# Altium schematic symbol library Resistors.SchLib: 67 symbols (part 5 of 6)
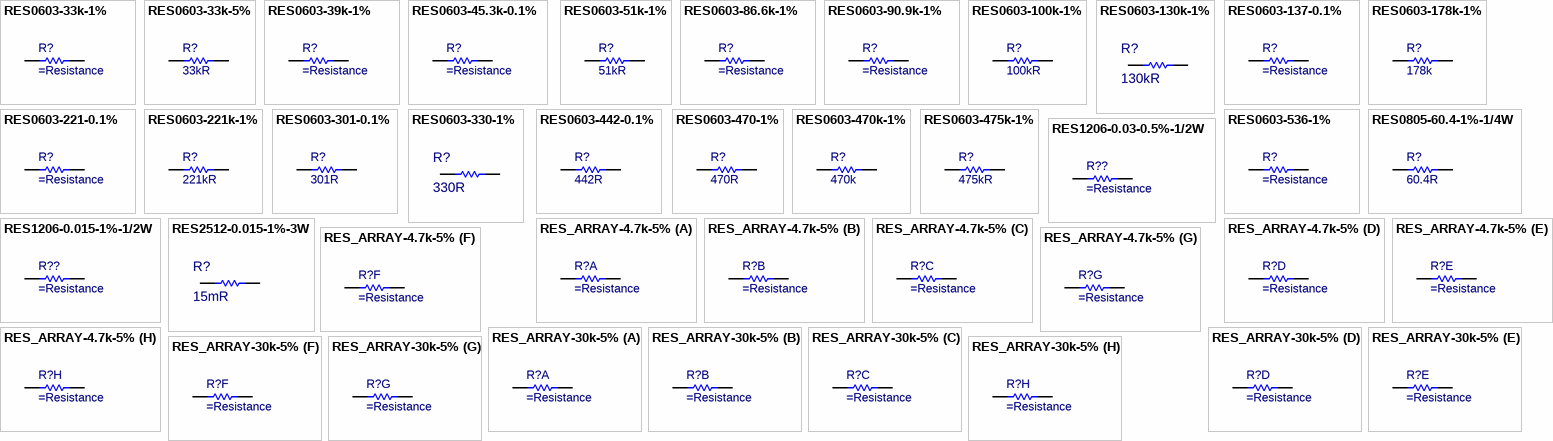
[diagram p6: symbols RES0603-33k-1% to RES_ARRAY-30k-5%]

## RES0603-100k-1%
designator R?, comment 100kR
RES SMD 100K OHM 1% 1/10W 0603; Manufacturer: Bourns; Manufacturer Part Number: CR0603-FX-1003ELF; Temperature Coefficient: 100ppm/°C; Voltage Rating (DC): 50V; Max Power Dissipation: 100mW; ComponentLink1URL: https://datasheet.ciiva.com/9122/chpreztr-9122363.pdf; ComponentLink1Description: https://datasheet.ciiva.com/9122/chpreztr-9122363.pdf; ComponentLink2URL: https://datasheet.ciiva.com/22713/691949-22713239.pdf?src-supplier=Element14; ComponentLink2Description: https://datasheet.ciiva.com/22713/691949-22713239.pdf?src-supplier=Element14; ComponentLink3URL: https://datasheet.ciiva.com/23776/1902866-23776391.pdf?src-supplier=Newark; ComponentLink3Description: https://datasheet.ciiva.com/23776/1902866-23776391.pdf?src-supplier=Newark; ComponentLink4URL: https://datasheet.ciiva.com/16766/70154685-16766760.pdf?src-supplier=Allied+Electronics; ComponentLink4Description: https://datasheet.ciiva.com/16766/70154685-16766760.pdf?src-supplier=Allied+Electronics; ComponentLink5URL: https://datasheet.ciiva.com/30229/159chpreztr-30229129.pdf?src-supplier=Onlinecomponents.com; ComponentLink5Description: https://datasheet.ciiva.com/30229/159chpreztr-30229129.pdf?src-supplier=Onlinecomponents.com; ComponentLink6URL: https://datasheet.ciiva.com/16935/chpreztr-16935963.pdf?src-supplier=Avnet+Europe; ComponentLink6Description: https://datasheet.ciiva.com/16935/chpreztr-16935963.pdf?src-supplier=Avnet+Europe; ComponentLink7URL: https://datasheet.ciiva.com/5543/chpreztr-5543676.pdf?src-supplier=Mouser; ComponentLink7Description: https://datasheet.ciiva.com/5543/chpreztr-5543676.pdf?src-supplier=Mouser; ComponentLink8URL: https://datasheet.ciiva.com/9120/chpreztr-9120764.pdf?src-supplier=Avnet; ComponentLink8Description: https://datasheet.ciiva.com/9120/chpreztr-9120764.pdf?src-supplier=Avnet; ComponentLink9URL: https://datasheet.ciiva.com/46383/1791942-46383790.pdf?src-supplier=Element14; ComponentLink9Description: https://datasheet.ciiva.com/46383/1791942-46383790.pdf?src-supplier=Element14; ComponentLink10URL: https://datasheet.ciiva.com/48692/001055501-da-01-en-smd-wid-cr0603-jw-104elf-100k-ohm-1-10w-48692133.pdf?src-supplier=Conrad; ComponentLink10Description: https://datasheet.ciiva.com/48692/001055501-da-01-en-smd-wid-cr0603-jw-104elf-100k-ohm-1-10w-48692133.pdf?src-supplier=Conrad; ComponentLink11URL: https://datasheet.ciiva.com/39121/775172-39121475.pdf?src-supplier=Jameco; ComponentLink11Description: https://datasheet.ciiva.com/39121/775172-39121475.pdf?src-supplier=Jameco; ComponentLink12URL: https://datasheet.ciiva.com/30052/159chpreztr-30052709.pdf?src-supplier=Onlinecomponents.com; ComponentLink12Description: https://datasheet.ciiva.com/30052/159chpreztr-30052709.pdf?src-supplier=Onlinecomponents.com; ComponentLink13URL: https://datasheet.ciiva.com/16935/chpreztr-16935910.pdf?src-supplier=Avnet+Europe; ComponentLink13Description: https://datasheet.ciiva.com/16935/chpreztr-16935910.pdf?src-supplier=Avnet+Europe; ComponentLink14URL: https://datasheet.ciiva.com/46383/1791942-46383767.pdf?src-supplier=Element14; ComponentLink14Description: https://datasheet.ciiva.com/46383/1791942-46383767.pdf?src-supplier=Element14; ComponentLink15URL: https://datasheet.ciiva.com/7986/1902866-7986185.pdf?src-supplier=Element14; ComponentLink15Description: https://datasheet.ciiva.com/7986/1902866-7986185.pdf?src-supplier=Element14; ComponentLink16URL: https://datasheet.ciiva.com/6547/chpreztr-6547278.pdf?src-supplier=Digi-Key; ComponentLink16Description: https://datasheet.ciiva.com/6547/chpreztr-6547278.pdf?src-supplier=Digi-Key; ComponentLink17URL: https://datasheet.ciiva.com/6547/chpreztr-6547279.pdf?src-supplier=Digi-Key; ComponentLink17Description: https://datasheet.ciiva.com/6547/chpreztr-6547279.pdf?src-supplier=Digi-Key; ComponentLink18URL: https://datasheet.ciiva.com/16757/70154685-16757477.pdf?src-supplier=Allied+Electronics; ComponentLink18Description: https://datasheet.ciiva.com/16757/70154685-16757477.pdf?src-supplier=Allied+Electronics; ComponentLink19URL: https://datasheet.ciiva.com/22713/691949-22713237.pdf?src-supplier=Element14; ComponentLink19Description: https://datasheet.ciiva.com/22713/691949-22713237.pdf?src-supplier=Element14; ComponentLink20URL: https://datasheet.ciiva.com/6564/chpreztr-6564439.pdf?src-supplier=Digi-Key; ComponentLink20Description: https://datasheet.ciiva.com/6564/chpreztr-6564439.pdf?src-supplier=Digi-Key; ComponentLink21URL: https://datasheet.ciiva.com/16935/chpreztr-16935928.pdf?src-supplier=Avnet+Europe; ComponentLink21Description: https://datasheet.ciiva.com/16935/chpreztr-16935928.pdf?src-supplier=Avnet+Europe; ComponentLink22URL: https://datasheet.ciiva.com/6564/chpreztr-6564441.pdf?src-supplier=Digi-Key; ComponentLink22Description: https://datasheet.ciiva.com/6564/chpreztr-6564441.pdf?src-supplier=Digi-Key; ComponentLink23URL: https://datasheet.ciiva.com/9123/chpreztr-9123706.pdf?src-supplier=Avnet; ComponentLink23Description: https://datasheet.ciiva.com/9123/chpreztr-9123706.pdf?src-supplier=Avnet; ComponentLink24URL: https://datasheet.ciiva.com/7986/1902866-7986188.pdf?src-supplier=Element14; ComponentLink24Description: https://datasheet.ciiva.com/7986/1902866-7986188.pdf?src-supplier=Element14; ComponentLink25URL: https://datasheet.ciiva.com/46383/691949-46383788.pdf?src-supplier=Element14; ComponentLink25Description: https://datasheet.ciiva.com/46383/691949-46383788.pdf?src-supplier=Element14; ComponentLink26URL: https://datasheet.ciiva.com/11808/0900766b80fcdb72-11808035.pdf?src-supplier=RSComponents; ComponentLink26Description: https://datasheet.ciiva.com/11808/0900766b80fcdb72-11808035.pdf?src-supplier=RSComponents; ComponentLink27URL: https://datasheet.ciiva.com/19466/774882-19466523.pdf?src-supplier=Jameco; ComponentLink27Description: https://datasheet.ciiva.com/19466/774882-19466523.pdf?src-supplier=Jameco; ComponentLink28URL: https://datasheet.ciiva.com/6547/chpreztr-6547349.pdf?src-supplier=Digi-Key; ComponentLink28Description: https://datasheet.ciiva.com/6547/chpreztr-6547349.pdf?src-supplier=Digi-Key; ComponentLink29URL: https://datasheet.ciiva.com/16941/chpreztr-16941637.pdf?src-supplier=Avnet+Europe; ComponentLink29Description: https://datasheet.ciiva.com/16941/chpreztr-16941637.pdf?src-supplier=Avnet+Europe; ComponentLink30URL: https://datasheet.ciiva.com/22693/1902866-22693205.pdf?src-supplier=Element14; ComponentLink30Description: https://datasheet.ciiva.com/22693/1902866-22693205.pdf?src-supplier=Element14; ComponentLink31URL: https://datasheet.ciiva.com/6547/chpreztr-6547350.pdf?src-supplier=Digi-Key; ComponentLink31Description: https://datasheet.ciiva.com/6547/chpreztr-6547350.pdf?src-supplier=Digi-Key; ComponentLink32URL: https://datasheet.ciiva.com/7001/1902866-7001622.pdf?src-supplier=Newark; ComponentLink32Description: https://datasheet.ciiva.com/7001/1902866-7001622.pdf?src-supplier=Newark; ComponentLink33URL: https://datasheet.ciiva.com/30115/159chpreztr-30115222.pdf?src-supplier=Onlinecomponents.com; ComponentLink33Description: https://datasheet.ciiva.com/30115/159chpreztr-30115222.pdf?src-supplier=Onlinecomponents.com; ComponentLink34URL: https://datasheet.ciiva.com/6547/chpreztr-6547351.pdf?src-supplier=Digi-Key; ComponentLink34Description: https://datasheet.ciiva.com/6547/chpreztr-6547351.pdf?src-supplier=Digi-Key; ComponentLink35URL: https://datasheet.ciiva.com/16757/70154685-16757482.pdf?src-supplier=Allied+Electronics; ComponentLink35Description: https://datasheet.ciiva.com/16757/70154685-16757482.pdf?src-supplier=Allied+Electronics; ComponentLink36URL: https://datasheet.ciiva.com/5546/chpreztr-5546283.pdf?src-supplier=Mouser; ComponentLink36Description: https://datasheet.ciiva.com/5546/chpreztr-5546283.pdf?src-supplier=Mouser; ComponentLink37URL: https://datasheet.ciiva.com/7986/691949-7986156.pdf?src-supplier=Element14; ComponentLink37Description: https://datasheet.ciiva.com/7986/691949-7986156.pdf?src-supplier=Element14; ComponentLink38URL: https://datasheet.ciiva.com/3255/chpreztr-3255917.pdf?src-supplier=Avnet; ComponentLink38Description: https://datasheet.ciiva.com/3255/chpreztr-3255917.pdf?src-supplier=Avnet; ComponentLink39URL: https://datasheet.ciiva.com/5547/chpreztr-5547814.pdf?src-supplier=Mouser; ComponentLink39Description: https://datasheet.ciiva.com/5547/chpreztr-5547814.pdf?src-supplier=Mouser; ComponentLink40URL: https://datasheet.ciiva.com/18594/chpreztr-18594942.pdf?src-supplier=Digi-Key; ComponentLink40Description: https://datasheet.ciiva.com/18594/chpreztr-18594942.pdf?src-supplier=Digi-Key; ComponentLink41URL: https://datasheet.ciiva.com/18594/chpreztr-18594943.pdf?src-supplier=Digi-Key; ComponentLink41Description: https://datasheet.ciiva.com/18594/chpreztr-18594943.pdf?src-supplier=Digi-Key; ComponentLink42URL: https://datasheet.ciiva.com/9119/chpreztr-9119642.pdf?src-supplier=Avnet; ComponentLink42Description: https://datasheet.ciiva.com/9119/chpreztr-9119642.pdf?src-supplier=Avnet; ComponentLink43URL: https://datasheet.ciiva.com/14986/chpreztr-14986477.pdf?src-supplier=Digi-Key; ComponentLink43Description: https://datasheet.ciiva.com/14986/chpreztr-14986477.pdf?src-supplier=Digi-Key; ComponentLink44URL: https://datasheet.ciiva.com/5545/chpreztr-5545629.pdf?src-supplier=Mouser; ComponentLink44Description: https://datasheet.ciiva.com/5545/chpreztr-5545629.pdf?src-supplier=Mouser; Supplier 1: Digi-Key; RoHS: Yes; Category: Chip SMD Resistors; Stock 1: 1177; Pricing 1: 1=0,10000, 10=0,01900, 100=0,00780, 1000=0,00350, 2500=0,00304 (USD); Mount: Surface Mount; Case/Package: 0603; Number of Pins: 2; Contact Plating: Tin; Case Code (Metric): 1608; Case Code (Imperial): 0603; Min Operating Temperature: -55°C; Max Operating Temperature: 155°C; Composition: Thick Film; Resistance: 100kR; Tolerance: 1%; Number of Terminations: 2; Termination: SMD/SMT; Features: Moisture Resistant; Packaging: Tape and Reel; Power Rating: 100mW; Voltage Rating: 50V; Package Quantity: 1; Working Voltage: 50V; Military Standard: Not; Length: 1.6mm; Height: 0.022inch; Depth: 0.8mm; Thickness: 457um; Width: 0.031inch; Radiation Hardening: No; REACH SVHC: No SVHC; ComponentLink45URL: https://datasheet.ciiva.com/11808/0900766b80fcdb72-11808036.pdf?src-supplier=RSComponents; ComponentLink45Description: https://datasheet.ciiva.com/11808/0900766b80fcdb72-11808036.pdf?src-supplier=RSComponents; ComponentLink46URL: https://datasheet.ciiva.com/19466/1163741-19466516.pdf?src-supplier=Jameco; ComponentLink46Description: https://datasheet.ciiva.com/19466/1163741-19466516.pdf?src-supplier=Jameco; ComponentLink47URL: https://datasheet.ciiva.com/41449/001055485-da-01-en-smd-wid-cr0603-fx-1003elf-100k-ohm-1-10w-41449971.pdf?src-supplier=Conrad; ComponentLink47Description: https://datasheet.ciiva.com/41449/001055485-da-01-en-smd-wid-cr0603-fx-1003elf-100k-ohm-1-10w-41449971.pdf?src-supplier=Conrad; ComponentLink48URL: https://datasheet.ciiva.com/46385/691949-46385260.pdf?src-supplier=Element14; ComponentLink48Description: https://datasheet.ciiva.com/46385/691949-46385260.pdf?src-supplier=Element14; ComponentLink49URL: https://datasheet.ciiva.com/6547/chpreztr-6547309.pdf?src-supplier=Digi-Key; ComponentLink49Description: https://datasheet.ciiva.com/6547/chpreztr-6547309.pdf?src-supplier=Digi-Key; ComponentLink50URL: https://datasheet.ciiva.com/6547/chpreztr-6547310.pdf?src-supplier=Digi-Key; ComponentLink50Description: https://datasheet.ciiva.com/6547/chpreztr-6547310.pdf?src-supplier=Digi-Key; ComponentLink51URL: https://datasheet.ciiva.com/3255/chpreztr-3255919.pdf?src-supplier=Avnet; ComponentLink51Description: https://datasheet.ciiva.com/3255/chpreztr-3255919.pdf?src-supplier=Avnet; ComponentLink52URL: https://datasheet.ciiva.com/16782/70154685-16782911.pdf?src-supplier=Allied+Electronics; ComponentLink52Description: https://datasheet.ciiva.com/16782/70154685-16782911.pdf?src-supplier=Allied+Electronics; ComponentLink53URL: https://datasheet.ciiva.com/22693/1902866-22693207.pdf?src-supplier=Element14; ComponentLink53Description: https://datasheet.ciiva.com/22693/1902866-22693207.pdf?src-supplier=Element14; ComponentLink54URL: https://datasheet.ciiva.com/16941/chpreztr-16941643.pdf?src-supplier=Avnet+Europe; ComponentLink54Description: https://datasheet.ciiva.com/16941/chpreztr-16941643.pdf?src-supplier=Avnet+Europe; ComponentLink55URL: https://datasheet.ciiva.com/15159/getdatasheetpartid-57636-15159629.pdf?src-supplier=Verical; ComponentLink55Description: https://datasheet.ciiva.com/15159/getdatasheetpartid-57636-15159629.pdf?src-supplier=Verical; ComponentLink56URL: https://datasheet.ciiva.com/5546/chpreztr-5546894.pdf?src-supplier=Mouser; ComponentLink56Description: https://datasheet.ciiva.com/5546/chpreztr-5546894.pdf?src-supplier=Mouser; ComponentLink57URL: https://datasheet.ciiva.com/7986/1902866-7986158.pdf?src-supplier=Element14; ComponentLink57Description: https://datasheet.ciiva.com/7986/1902866-7986158.pdf?src-supplier=Element14; ComponentLink58URL: https://datasheet.ciiva.com/6547/chpreztr-6547311.pdf?src-supplier=Digi-Key; ComponentLink58Description: https://datasheet.ciiva.com/6547/chpreztr-6547311.pdf?src-supplier=Digi-Key; ComponentLink59URL: https://datasheet.ciiva.com/30120/159chpreztr-30120559.pdf?src-supplier=Onlinecomponents.com; ComponentLink59Description: https://datasheet.ciiva.com/30120/159chpreztr-30120559.pdf?src-supplier=Onlinecomponents.com; Supplier Part Number 1: CR0603-FX-1003ELFCT-ND
footprint R0603 (Chip Resistor, 2-Leads, Body 1.75x0.95mm)
pins: 1, 2

## RES0603-130k-1%
designator R?, comment 130kR
RES SMD 130K OHM 1% 1/10W 0603; Manufacturer: Vishay; Manufacturer Part Number: CRCW0603130KFKEA; Temperature Coefficient: 100ppm/°C; Max Power Dissipation: 100mW; Voltage Rating: 75V; Supplier 1: Digi-Key; RoHS: Yes; Category: Chip SMD Resistors; Stock 1: 19697; Pricing 1: 1=0.10000, 10=0.03600, 100=0.01450, 1000=0.00652, 2500=0.00566 (USD); Case/Package: 0603; Number of Pins: 2; Contact Plating: Tin; Case Code (Metric): 1608; Case Code (Imperial): 0603; Weight: 7.1E-05oz; Size Code: 0603; Min Operating Temperature: -55°C; Max Operating Temperature: 155°C; Resistance: 130kR; Tolerance: 1%; Resistor Type: Thick Film; Packaging: Tape and Reel; Number of Terminations: 2; Package Quantity: 10; Power Rating: 100mW; Termination: SMD/SMT; Features: Automotive AEC-Q200; Series: CRCW; Voltage Rating (DC): 75V; Construction: Rectangular; Resistance Tolerance: 1%; Technology: THICK FILM; Length: 1.55mm; Width: 0.033inch; Height: 0.45mm; Depth: 0.85mm; Radiation Hardening: No; Lead Free: Lead Free; RoHS Compliant: Yes; REACH SVHC: Unknown; Military Standard: Not; ComponentLink1URL: https://datasheet.ciiva.com/11810/0900766b80d98afc-11810935.pdf?src-supplier=RSComponents; ComponentLink1Description: https://datasheet.ciiva.com/11810/0900766b80d98afc-11810935.pdf?src-supplier=RSComponents; ComponentLink2URL: https://datasheet.ciiva.com/2466/dcrcwe3-2466080.pdf?src-supplier=Digi-Key; ComponentLink2Description: https://datasheet.ciiva.com/2466/dcrcwe3-2466080.pdf?src-supplier=Digi-Key; ComponentLink3URL: https://datasheet.ciiva.com/2466/dcrcwe3-2466081.pdf?src-supplier=Digi-Key; ComponentLink3Description: https://datasheet.ciiva.com/2466/dcrcwe3-2466081.pdf?src-supplier=Digi-Key; ComponentLink4URL: https://datasheet.ciiva.com/2466/dcrcwe3-2466082.pdf?src-supplier=Digi-Key; ComponentLink4Description: https://datasheet.ciiva.com/2466/dcrcwe3-2466082.pdf?src-supplier=Digi-Key; ComponentLink5URL: https://datasheet.ciiva.com/16498/dcrcwe3-16498316.pdf?src-supplier=Future+Electronics; ComponentLink5Description: https://datasheet.ciiva.com/16498/dcrcwe3-16498316.pdf?src-supplier=Future+Electronics; ComponentLink6URL: https://datasheet.ciiva.com/16782/70201119-16782396.pdf?src-supplier=Allied+Electronics; ComponentLink6Description: https://datasheet.ciiva.com/16782/70201119-16782396.pdf?src-supplier=Allied+Electronics; ComponentLink7URL: https://datasheet.ciiva.com/8972/dcrcwe3-8972701.pdf?src-supplier=Avnet; ComponentLink7Description: https://datasheet.ciiva.com/8972/dcrcwe3-8972701.pdf?src-supplier=Avnet; ComponentLink8URL: https://datasheet.ciiva.com/16786/70201119-16786879.pdf?src-supplier=Allied+Electronics; ComponentLink8Description: https://datasheet.ciiva.com/16786/70201119-16786879.pdf?src-supplier=Allied+Electronics; Supplier Part Number 1: 541-130KHCT-ND
footprint R0603 (Chip Resistor, 2-Leads, Body 1.75x0.95mm)
pins: 1, 2

## RES0603-137-0.1%
designator R?
RES SMD 137 OHM 0.1% 1/16W 0603; Manufacturer: TE Connectivity; Manufacturer Part Number: CPF0603B137RE1; Resistance: 137R; Value: 137R; Temperature Coefficient: 25ppm/°C; Max Power Dissipation: 63mW; Voltage Rating: 50V; Number of Resistors: 1; Supplier: Digikey; Supplier Part Number: CPF0603B137RE1-ND; RoHS: Yes; Category: Chip SMD Resistors; Pricing: 1000=0,12618 (USD); Mounting Technology: Surface Mount; Case/Package: 0603; Case Code (Metric): 1608; Case Code (Imperial): 0603; Weight: 7.1E-05oz; Min Operating Temperature: -55°C; Max Operating Temperature: 155°C; Tolerance: 0.1%; Number of Terminations: 2; Power Rating: 63mW; Packaging: Tape and Reel; Package Quantity: 1000; Voltage Rating (DC): 50V; Series: CPF, Neohm; Termination: Solder; Resistor Type: Thin Film; Resistance Tolerance: 0.1%; Length: 1.55mm; Width: 0.8mm; Height: 0.45mm; RoHS Compliant: Yes; Reach SVHC Compliant: No; ELV: Compliant; ComponentLink1URL: https://datasheet.ciiva.com/22670/1723857-22670602.pdf?src-supplier=Element14; ComponentLink1Description: https://datasheet.ciiva.com/22670/1723857-22670602.pdf?src-supplier=Element14; ComponentLink2URL: https://datasheet.ciiva.com/2545/eng-cd-1879222-ba1-pdf-c-1879222-drw-2545299.pdf?src-supplier=Digikey; ComponentLink2Description: https://datasheet.ciiva.com/2545/eng-cd-1879222-ba1-pdf-c-1879222-drw-2545299.pdf?src-supplier=Digikey; Supplier 1: Digikey; Supplier Part Number 1: CPF0603B137RE1-ND
footprint R0603 (Chip Resistor, 2-Leads, Body 1.75x0.95mm)
pins: 1, 2

## RES0603-178k-1%
designator R?, comment 178k
RES SMD 178K OHM 1% 1/10W 0603; Manufacturer: Vishay; Manufacturer Part Number: CRCW0603178KFKEA; Voltage Rating (DC): 75V; Max Power Dissipation: 100mW; Value: 178kΩ; Temperature Coefficient: 100ppm/°C; Resistance: 178k; Supplier: Digikey; Supplier Part Number: 541-178KHCT-ND; RoHS: Yes; Category: Chip SMD Resistors; Stock: 34149; Pricing: 1=0,1, 10=0,03, 100=0,015, 1000=0,00845, 2500=0,00702 (USD); Lead Free: 5697LeadFree; ComponentLink1URL: https://datasheet.ciiva.com/11810/0900766b80d98afc-11810671.pdf?src-supplier=Rs; ComponentLink1Description: https://datasheet.ciiva.com/11810/0900766b80d98afc-11810671.pdf?src-supplier=Rs; ComponentLink2URL: https://datasheet.ciiva.com/7714/1697337-7714237.pdf?src-supplier=Element14; ComponentLink2Description: https://datasheet.ciiva.com/7714/1697337-7714237.pdf?src-supplier=Element14; ComponentLink3URL: https://datasheet.ciiva.com/3257/dcrcwe3-3257093.pdf?src-supplier=Avnet; ComponentLink3Description: https://datasheet.ciiva.com/3257/dcrcwe3-3257093.pdf?src-supplier=Avnet; ComponentLink4URL: https://datasheet.ciiva.com/5551/dcrcwe3-109170-5551581.pdf?src-supplier=Mouser; ComponentLink4Description: https://datasheet.ciiva.com/5551/dcrcwe3-109170-5551581.pdf?src-supplier=Mouser; ComponentLink5URL: https://datasheet.ciiva.com/2466/dcrcwe3-2466308.pdf?src-supplier=Digikey; ComponentLink5Description: https://datasheet.ciiva.com/2466/dcrcwe3-2466308.pdf?src-supplier=Digikey; ComponentLink6URL: https://datasheet.ciiva.com/2466/dcrcwe3-2466309.pdf?src-supplier=Digikey; ComponentLink6Description: https://datasheet.ciiva.com/2466/dcrcwe3-2466309.pdf?src-supplier=Digikey; ComponentLink7URL: https://datasheet.ciiva.com/2466/dcrcwe3-2466310.pdf?src-supplier=Digikey; ComponentLink7Description: https://datasheet.ciiva.com/2466/dcrcwe3-2466310.pdf?src-supplier=Digikey; ComponentLink8URL: https://datasheet.ciiva.com/16396/dcrcwe3-16396318.pdf?src-supplier=Future+Electronics; ComponentLink8Description: https://datasheet.ciiva.com/16396/dcrcwe3-16396318.pdf?src-supplier=Future+Electronics; ComponentLink9URL: https://datasheet.ciiva.com/15159/getdatasheetpartid-248924-15159019.pdf?src-supplier=Verical; ComponentLink9Description: https://datasheet.ciiva.com/15159/getdatasheetpartid-248924-15159019.pdf?src-supplier=Verical; Supplier 1: DigiKey; Supplier Part Number 1: 13-AC0603FR-07178KLDKR-ND; Case/Package: 0603; Case Code (Imperial): 0603; Case Code (Metric): 1608; China RoHS: Non-Compliant; Composition: Thick Film; Features: Automotive AEC-Q200, Moisture Resistant; Height: 450µm; Length: 1.6002mm; Lifecycle Status: Production; Max Operating Temperature: 155°C; Min Operating Temperature: -55°C; Mounting Technology: Surface Mount; Number of Terminals: 2; Number of Terminations: 2; Packaging: Tape & Reel; Power Dissipation: 100mW; Power Rating: 100mW; REACH SVHC: Yes; Termination: SMD/SMT; Tolerance: 1%; Voltage Rating: 75V; Weight: 2.012816mg; Width: 800µm; Working Voltage: 75V; ComponentLink10URL: https://datasheet.octopart.com:443/AC0603FR-07178KL-Yageo-datasheet-182189377.pdf?src-supplier=IHS; ComponentLink10Description: https://datasheet.octopart.com:443/AC0603FR-07178KL-Yageo-datasheet-182189377.pdf?src-supplier=IHS; ComponentLink11URL: https://datasheet.octopart.com:443/AC0603FR-07178KL-Yageo-datasheet-86786639.pdf?src-supplier=Upverter; ComponentLink11Description: https://datasheet.octopart.com:443/AC0603FR-07178KL-Yageo-datasheet-86786639.pdf?src-supplier=Upverter; ComponentLink12URL: https://datasheet.octopart.com:443/AC0603FR-07178KL-Yageo-datasheet-178509465.pdf?src-supplier=Farnell; ComponentLink12Description: https://datasheet.octopart.com:443/AC0603FR-07178KL-Yageo-datasheet-178509465.pdf?src-supplier=Farnell; ComponentLink13URL: https://datasheet.octopart.com:443/AC0603FR-07178KL-Yageo-datasheet-12512238.pdf?src-supplier=Future+Electronics; ComponentLink13Description: https://datasheet.octopart.com:443/AC0603FR-07178KL-Yageo-datasheet-12512238.pdf?src-supplier=Future+Electronics; ComponentLink14URL: https://datasheet.octopart.com:443/AC0603FR-07178KL-Yageo-datasheet-166720450.pdf?src-supplier=Future+Electronics; ComponentLink14Description: https://datasheet.octopart.com:443/AC0603FR-07178KL-Yageo-datasheet-166720450.pdf?src-supplier=Future+Electronics; ComponentLink15URL: https://datasheet.octopart.com:443/AC0603FR-07178KL-Yageo-datasheet-151884373.pdf?src-supplier=Future+Electronics; ComponentLink15Description: https://datasheet.octopart.com:443/AC0603FR-07178KL-Yageo-datasheet-151884373.pdf?src-supplier=Future+Electronics; ComponentLink16URL: https://datasheet.octopart.com:443/AC0603FR-07178KL-Yageo-datasheet-137699919.pdf?src-supplier=Future+Electronics; ComponentLink16Description: https://datasheet.octopart.com:443/AC0603FR-07178KL-Yageo-datasheet-137699919.pdf?src-supplier=Future+Electronics; ComponentLink17URL: https://datasheet.octopart.com:443/AC0603FR-07178KL-Yageo-Group-datasheet-164768995.pdf?src-supplier=ODG+(Origin+Data+Global); ComponentLink17Description: https://datasheet.octopart.com:443/AC0603FR-07178KL-Yageo-Group-datasheet-164768995.pdf?src-supplier=ODG+(Origin+Data+Global); ComponentLink18URL: http://sigma.octopart.com:80/conflict_mineral_statement/Yageo-company-3.pdf?src-supplier=Compliance+Statements; ComponentLink18Description: http://sigma.octopart.com:80/conflict_mineral_statement/Yageo-company-3.pdf?src-supplier=Compliance+Statements; ComponentLink19URL: http://sigma.octopart.com:80/rohs_statement/Yageo-company-2.pdf?src-supplier=Compliance+Statements; ComponentLink19Description: http://sigma.octopart.com:80/rohs_statement/Yageo-company-2.pdf?src-supplier=Compliance+Statements
footprint R0603 (Chip Resistor, 2-Leads, Body 1.75x0.95mm)
pins: 1, 2

## RES0603-221-0.1%
designator R?
RES SMD 221 OHM 0.1% 1/16W 0603; Manufacturer: TE Connectivity; Manufacturer Part Number: CPF0603B221RE1; Resistance: 221R; Value: 221R; Temperature Coefficient: 25ppm/°C; Voltage Rating (DC): 50V; Max Power Dissipation: 63mW; Number of Resistors: 1; Supplier: Digikey; Supplier Part Number: 1712-CPF0603B221RE1CT-ND; RoHS: Yes; Category: Chip SMD Resistors; Stock: 700; Pricing: 1=0,27, 10=0,222, 50=0,1942, 100=0,1835, 500=0,16188 (USD); Mounting Technology: Surface Mount; Case/Package: 0603; Case Code (Metric): 1608; Case Code (Imperial): 0603; Weight: 7.1E-05oz; Contact Plating: Tin; Min Operating Temperature: -55°C; Max Operating Temperature: 155°C; Tolerance: 0.1%; Packaging: Tape and Reel; Series: CPF, Neohm; Number of Terminations: 2; Package Quantity: 1000; Power Rating: 63mW; Voltage Rating: 50V; Termination: Solder; Resistor Type: Thin Film; Resistance Tolerance: 0.1%; Operating Supply Voltage: 50V; Length: 1.55mm; Width: 0.8mm; Height: 0.45mm; Radiation Hardening: No; RoHS Compliant: Yes; Reach SVHC Compliant: No; ELV: Compliant; ComponentLink1URL: https://datasheet.ciiva.com/22670/1723857-22670715.pdf?src-supplier=Element14; ComponentLink1Description: https://datasheet.ciiva.com/22670/1723857-22670715.pdf?src-supplier=Element14; ComponentLink2URL: https://datasheet.ciiva.com/28516/1723857-28516518.pdf?src-supplier=Element14; ComponentLink2Description: https://datasheet.ciiva.com/28516/1723857-28516518.pdf?src-supplier=Element14; ComponentLink3URL: https://datasheet.ciiva.com/12729/eng-ds-1773200-i-12729263.pdf?src-supplier=Mouser; ComponentLink3Description: https://datasheet.ciiva.com/12729/eng-ds-1773200-i-12729263.pdf?src-supplier=Mouser; ComponentLink4URL: https://datasheet.ciiva.com/2545/eng-cd-1879222-ba1-pdf-c-1879222-drw-2545317.pdf?src-supplier=Digikey; ComponentLink4Description: https://datasheet.ciiva.com/2545/eng-cd-1879222-ba1-pdf-c-1879222-drw-2545317.pdf?src-supplier=Digikey; Supplier 1: Digikey; Supplier Part Number 1: 1712-CPF0603B221RE1CT-ND
footprint R0603 (Chip Resistor, 2-Leads, Body 1.75x0.95mm)
pins: 1, 2

## RES0603-221k-1%
designator R?, comment 221kR
RES SMD 221K OHM 1% 1/10W 0603; Manufacturer: Yageo Group; Manufacturer Part Number: RT0603FRE07221KL; Max Power Dissipation: 100mW; Value: 221kΩ; Temperature Coefficient: 50ppm/°C; Voltage Rating: 75V; Voltage Rating (DC): 50V; Resistance: 221kR; Supplier: DigiKey; Supplier Part Number: 13-RT0603FRE07221KLCT-ND; RoHS: Compliant; Category: Chip SMD Resistors; Stock: 10270; Pricing: 1=0,1, 10=0,008, 25=0,008, 50=0,0076 (USD); Case/Package: 0603; Case Code (Imperial): 0603; China RoHS: Non-Compliant; Composition: Thin Film; Contact Plating: Tin; Depth: 800µm; Height: 450µm; Lead Free: Lead Free; Length: 1.6002mm; Lifecycle Status: Production; Max Operating Temperature: 155°C; Military Standard: Not; Min Operating Temperature: -55°C; Mounting Technology: Surface Mount; Number of Terminals: 2; Number of Terminations: 2; Power Dissipation: 100mW; Power Rating: 100mW; Radiation Hardening: No; REACH SVHC: Yes; Termination: SMD/SMT; Tolerance: 1%; Width: 800µm; Working Voltage: 75V; ComponentLink1URL: https://datasheet.octopart.com:443/RT0603FRE07221KL-Yageo-datasheet-176402239.pdf?src-supplier=Newark; ComponentLink1Description: https://datasheet.octopart.com:443/RT0603FRE07221KL-Yageo-datasheet-176402239.pdf?src-supplier=Newark; ComponentLink2URL: https://datasheet.octopart.com:443/RT0603FRE07221KL-Yageo-datasheet-96443642.pdf?src-supplier=Upverter; ComponentLink2Description: https://datasheet.octopart.com:443/RT0603FRE07221KL-Yageo-datasheet-96443642.pdf?src-supplier=Upverter; ComponentLink3URL: https://datasheet.octopart.com:443/RT0603FRE07221KL-Yageo-datasheet-169971040.pdf?src-supplier=Future+Electronics; ComponentLink3Description: https://datasheet.octopart.com:443/RT0603FRE07221KL-Yageo-datasheet-169971040.pdf?src-supplier=Future+Electronics; ComponentLink4URL: https://datasheet.octopart.com:443/RT0603FRE07221KL-Yageo-datasheet-166250672.pdf?src-supplier=Future+Electronics; ComponentLink4Description: https://datasheet.octopart.com:443/RT0603FRE07221KL-Yageo-datasheet-166250672.pdf?src-supplier=Future+Electronics; ComponentLink5URL: https://datasheet.octopart.com:443/RT0603FRE07221KL-Yageo-datasheet-137700930.pdf?src-supplier=Future+Electronics; ComponentLink5Description: https://datasheet.octopart.com:443/RT0603FRE07221KL-Yageo-datasheet-137700930.pdf?src-supplier=Future+Electronics; ComponentLink6URL: https://datasheet.octopart.com/RT0603FRE07221KL-Yageo-datasheet-86813807.pdf; ComponentLink6Description: https://datasheet.octopart.com/RT0603FRE07221KL-Yageo-datasheet-86813807.pdf; ComponentLink7URL: http://sigma.octopart.com:80/rohs_statement/Yageo-company-2.pdf?src-supplier=Compliance+Statements; ComponentLink7Description: http://sigma.octopart.com:80/rohs_statement/Yageo-company-2.pdf?src-supplier=Compliance+Statements; ComponentLink8URL: http://sigma.octopart.com:80/conflict_mineral_statement/Yageo-company-3.pdf?src-supplier=Compliance+Statements; ComponentLink8Description: http://sigma.octopart.com:80/conflict_mineral_statement/Yageo-company-3.pdf?src-supplier=Compliance+Statements; Supplier 1: DigiKey; Supplier Part Number 1: 13-RT0603FRE07221KLCT-ND
footprint R0603 (Chip Resistor, 2-Leads, Body 1.75x0.95mm)
pins: 1, 2

## RES0603-301-0.1%
designator R?, comment 301R
RES 301 OHM 0.1% 0.21W 0603; Manufacturer: Vishay Dale; Manufacturer Part Number: TNPW0603301RBEEA; Resistance: 301R; ComponentLink1URL: https://datasheet.ciiva.com/8948/tnpw-e3-8948763.pdf?src-supplier=Avnet; ComponentLink1Description: https://datasheet.ciiva.com/8948/tnpw-e3-8948763.pdf?src-supplier=Avnet; ComponentLink2URL: https://datasheet.ciiva.com/22670/1723857-22670602.pdf?src-supplier=Element14; ComponentLink2Description: https://datasheet.ciiva.com/22670/1723857-22670602.pdf?src-supplier=Element14; ComponentLink3URL: https://datasheet.ciiva.com/2545/eng-cd-1879222-ba1-pdf-c-1879222-drw-2545299.pdf?src-supplier=Digikey; ComponentLink3Description: https://datasheet.ciiva.com/2545/eng-cd-1879222-ba1-pdf-c-1879222-drw-2545299.pdf?src-supplier=Digikey; Supplier: Digikey; Supplier Part Number: 541-3647-1-ND; RoHS: Yes; Category: Chip SMD Resistors; Stock: 2304; Pricing: 1=0,23, 10=0,192, 50=0,1682, 100=0,159, 500=0,1401, 1000=0,13317 (USD); Supplier 1: Digikey; Supplier Part Number 1: 541-3647-1-ND
footprint R0603 (Chip Resistor, 2-Leads, Body 1.75x0.95mm)
pins: 1, 2

## RES0603-330-1%
designator R?, comment 330R
RES SMD 330 OHM 1% 1/10W 0603; Manufacturer 1: Vishay; Manufacturer Part Number 1: CRCW0603330RFKEA; Temperature Coefficient: 100ppm/°C; Power Rating: 100mW; Voltage Rating: 75V; Supplier 1: Digi-Key; RoHS: Yes; Category: Chip SMD Resistors; Stock 1: 110615; Pricing 1: 1=0,10000, 10=0,03800, 100=0,01560, 1000=0,00701, 2500=0,00608 (USD); Mount: Surface Mount; Case/Package: 0603; Contact Plating: Tin; Weight: 7.1E-05oz; Case Code (Metric): 1608; Case Code (Imperial): 0603; Size Code: 0603; Min Operating Temperature: -55°C; Max Operating Temperature: 155°C; Resistor Type: Thick Film; Resistance: 330R; Tolerance: 1%; Termination: SMD/SMT; Packaging: Tape and Reel; Package Quantity: 10; Number of Terminations: 2; Max Power Dissipation: 100mW; Voltage Rating (DC): 75V; Features: Automotive AEC-Q200; Series: CRCW; Construction: Rectangular; Resistance Tolerance: 1%; Technology: THICK FILM; Length: 1.55mm; Width: 0.033inch; Height: 0.45mm; Depth: 0.85mm; Radiation Hardening: No; Lead Free: Lead Free; RoHS Compliant: Yes; REACH SVHC: Unknown; Military Standard: Not; ComponentLink1URL: https://datasheet.ciiva.com/11809/0900766b80d98afc-11809055.pdf?src-supplier=RSComponents; ComponentLink1Description: https://datasheet.ciiva.com/11809/0900766b80d98afc-11809055.pdf?src-supplier=RSComponents; ComponentLink2URL: https://datasheet.ciiva.com/2465/dcrcwe3-2465777.pdf?src-supplier=Digi-Key; ComponentLink2Description: https://datasheet.ciiva.com/2465/dcrcwe3-2465777.pdf?src-supplier=Digi-Key; ComponentLink3URL: https://datasheet.ciiva.com/2465/dcrcwe3-2465778.pdf?src-supplier=Digi-Key; ComponentLink3Description: https://datasheet.ciiva.com/2465/dcrcwe3-2465778.pdf?src-supplier=Digi-Key; ComponentLink4URL: https://datasheet.ciiva.com/2465/dcrcwe3-2465779.pdf?src-supplier=Digi-Key; ComponentLink4Description: https://datasheet.ciiva.com/2465/dcrcwe3-2465779.pdf?src-supplier=Digi-Key; ComponentLink5URL: https://datasheet.ciiva.com/5543/dcrcwe3-109170-5543013.pdf?src-supplier=Mouser; ComponentLink5Description: https://datasheet.ciiva.com/5543/dcrcwe3-109170-5543013.pdf?src-supplier=Mouser; ComponentLink6URL: https://datasheet.ciiva.com/16772/70201119-16772038.pdf?src-supplier=Allied+Electronics; ComponentLink6Description: https://datasheet.ciiva.com/16772/70201119-16772038.pdf?src-supplier=Allied+Electronics; ComponentLink7URL: https://datasheet.ciiva.com/26316/fld-crcw-e3-data-en-26316538.pdf?src-supplier=Distrelec; ComponentLink7Description: https://datasheet.ciiva.com/26316/fld-crcw-e3-data-en-26316538.pdf?src-supplier=Distrelec; ComponentLink8URL: https://datasheet.ciiva.com/15225/getdatasheetpartid-32830-15225339.pdf?src-supplier=Verical; ComponentLink8Description: https://datasheet.ciiva.com/15225/getdatasheetpartid-32830-15225339.pdf?src-supplier=Verical; ComponentLink9URL: https://datasheet.ciiva.com/16372/dcrcwe3-16372971.pdf?src-supplier=Future+Electronics; ComponentLink9Description: https://datasheet.ciiva.com/16372/dcrcwe3-16372971.pdf?src-supplier=Future+Electronics; ComponentLink10URL: https://datasheet.ciiva.com/16893/dcrcwe3-16893227.pdf?src-supplier=Avnet+Europe; ComponentLink10Description: https://datasheet.ciiva.com/16893/dcrcwe3-16893227.pdf?src-supplier=Avnet+Europe; ComponentLink11URL: https://datasheet.ciiva.com/7777/1697337-7777311.pdf?src-supplier=Element14; ComponentLink11Description: https://datasheet.ciiva.com/7777/1697337-7777311.pdf?src-supplier=Element14; Supplier Part Number 1: 541-330HCT-ND
footprint R0603 (Chip Resistor, 2-Leads, Body 1.75x0.95mm)
pins: 1, 2

## RES0603-442-0.1%
designator R?, comment 442R
RES SMD 442 OHM 0.1% 1/6W 0603; Manufacturer: TE Connectivity; Manufacturer Part Number: RP73PF1J442RBTDF; Resistance: 442R; Supplier: Digikey; Supplier Part Number: A110074CT-ND; RoHS: Yes; Category: Chip SMD Resistors; Stock: 490; Pricing: 1=0,31, 10=0,26, 50=0,227, 100=0,2132, 500=0,18818 (USD); ComponentLink1URL: https://datasheet.ciiva.com/18601/eng-ds-1773272-j-18601565.pdf?src-supplier=Digikey; ComponentLink1Description: https://datasheet.ciiva.com/18601/eng-ds-1773272-j-18601565.pdf?src-supplier=Digikey; ComponentLink2URL: https://datasheet.ciiva.com/18601/eng-ds-1773272-j-18601566.pdf?src-supplier=Digikey; ComponentLink2Description: https://datasheet.ciiva.com/18601/eng-ds-1773272-j-18601566.pdf?src-supplier=Digikey; ComponentLink3URL: https://datasheet.ciiva.com/18601/eng-ds-1773272-j-18601567.pdf?src-supplier=Digikey; ComponentLink3Description: https://datasheet.ciiva.com/18601/eng-ds-1773272-j-18601567.pdf?src-supplier=Digikey; ComponentLink4URL: https://datasheet.ciiva.com/46439/1635325-46439131.pdf?src-supplier=Element14; ComponentLink4Description: https://datasheet.ciiva.com/46439/1635325-46439131.pdf?src-supplier=Element14; ComponentLink5URL: https://datasheet.ciiva.com/7801/1635325-7801867.pdf?src-supplier=Element14; ComponentLink5Description: https://datasheet.ciiva.com/7801/1635325-7801867.pdf?src-supplier=Element14; Supplier 1: Digikey; Supplier Part Number 1: A110074CT-ND
footprint R0603 (Chip Resistor, 2-Leads, Body 1.75x0.95mm)
pins: 1, 2

## RES0603-470-1%
designator R?, comment 470R
RES SMD 470 OHM 1% 1/10W 0603; Manufacturer: Yageo Group; Manufacturer Part Number: AF0603FR-07470RL; Max Power Dissipation: 100mW; Value: 470Ω; Temperature Coefficient: 100ppm/°C; Voltage Rating: 75V; Resistance: 470R; Supplier 1: DigiKey; Supplier Part Number 1: 311-470LMCT-ND; Supplier: DigiKey; Supplier Part Number: 311-470LMCT-ND; RoHS: Compliant; Category: Chip SMD Resistors; Stock: 6359; Pricing: 1=0,1, 10=0,016, 25=0,0152, 50=0,0142, 100=0,0133, 250=0,01172 (USD); Case/Package: 0603; Case Code (Imperial): 0603; Case Code (Metric): 1608; China RoHS: Non-Compliant; Composition: Thick Film; Features: Anti-Sulfur, Moisture Resistant; Height: 450µm; Lead Free: Lead Free; Length: 1.6002mm; Lifecycle Status: Production; Max Operating Temperature: 155°C; Min Operating Temperature: -55°C; Mounting Technology: Surface Mount; Number of Terminals: 2; Number of Terminations: 2; Packaging: Tape & Reel; Power Dissipation: 100mW; Power Rating: 100mW; REACH SVHC: Yes; Schedule B: 8533210045, 8533210045|8533210045|8533210045|8533210045|8533210045; Termination: SMD/SMT; Tolerance: 1%; Width: 800µm; Working Voltage: 75V; ComponentLink1URL: https://datasheet.octopart.com:443/AF0603FR-07470RL-Yageo-datasheet-182189395.pdf?src-supplier=IHS; ComponentLink1Description: https://datasheet.octopart.com:443/AF0603FR-07470RL-Yageo-datasheet-182189395.pdf?src-supplier=IHS; ComponentLink2URL: https://datasheet.octopart.com:443/AF0603FR-07470RL-Yageo-datasheet-153645569.pdf?src-supplier=Upverter; ComponentLink2Description: https://datasheet.octopart.com:443/AF0603FR-07470RL-Yageo-datasheet-153645569.pdf?src-supplier=Upverter; ComponentLink3URL: https://sigma.octopart.com:443/138820526/technical_drawing/Yageo-AF0603FR-07470RL.pdf?src-supplier=Upverter; ComponentLink3Description: https://sigma.octopart.com:443/138820526/technical_drawing/Yageo-AF0603FR-07470RL.pdf?src-supplier=Upverter; ComponentLink4URL: https://datasheet.octopart.com:443/AF0603FR-07470RL-Yageo-datasheet-68296209.pdf?src-supplier=Future+Electronics; ComponentLink4Description: https://datasheet.octopart.com:443/AF0603FR-07470RL-Yageo-datasheet-68296209.pdf?src-supplier=Future+Electronics; ComponentLink5URL: https://datasheet.octopart.com:443/AF0603FR-07470RL-Yageo-datasheet-164730775.pdf?src-supplier=Future+Electronics; ComponentLink5Description: https://datasheet.octopart.com:443/AF0603FR-07470RL-Yageo-datasheet-164730775.pdf?src-supplier=Future+Electronics; ComponentLink6URL: https://datasheet.octopart.com:443/AF0603FR-07470RL-Yageo-datasheet-137315688.pdf?src-supplier=Future+Electronics; ComponentLink6Description: https://datasheet.octopart.com:443/AF0603FR-07470RL-Yageo-datasheet-137315688.pdf?src-supplier=Future+Electronics; ComponentLink7URL: https://datasheet.octopart.com:443/AF0603FR-07470RL-Yageo-datasheet-137481464.pdf?src-supplier=Future+Electronics; ComponentLink7Description: https://datasheet.octopart.com:443/AF0603FR-07470RL-Yageo-datasheet-137481464.pdf?src-supplier=Future+Electronics; ComponentLink8URL: http://sigma.octopart.com:80/conflict_mineral_statement/Yageo-company-3.pdf?src-supplier=Compliance+Statements; ComponentLink8Description: http://sigma.octopart.com:80/conflict_mineral_statement/Yageo-company-3.pdf?src-supplier=Compliance+Statements; ComponentLink9URL: http://sigma.octopart.com:80/rohs_statement/Yageo-company-2.pdf?src-supplier=Compliance+Statements; ComponentLink9Description: http://sigma.octopart.com:80/rohs_statement/Yageo-company-2.pdf?src-supplier=Compliance+Statements
footprint R0603 (Chip Resistor, 2-Leads, Body 1.75x0.95mm)
pins: 1, 2

## RES0603-470k-1%
designator R?, comment 470k
RES SMD 470K OHM 1% 1/10W 0603; Manufacturer: Panasonic; Manufacturer Part Number: ERJ-3EKF4703V; Voltage Rating (DC): 75V; Interface: 40Interface; Max Supply Voltage: 3.6V; Min Supply Voltage: 1.65V; Nominal Supply Current: 15mA; Nominal Supply Voltage (DC): 1.8V; Resistance: 470k; Supplier: Digikey; Supplier Part Number: P470KHCT-ND; RoHS: Yes; Category: Chip SMD Resistors; Stock: 118675; Pricing: 1=0,1, 10=0,034, 100=0,0173, 1000=0,00995, 2500=0,0083 (USD); Lead Free: 5697LeadFree; ComponentLink1URL: https://datasheet.ciiva.com/16759/70260748-16759934.pdf?src-supplier=Allied+Electronics; ComponentLink1Description: https://datasheet.ciiva.com/16759/70260748-16759934.pdf?src-supplier=Allied+Electronics; ComponentLink2URL: https://datasheet.ciiva.com/16786/70260748-16786907.pdf?src-supplier=Allied+Electronics; ComponentLink2Description: https://datasheet.ciiva.com/16786/70260748-16786907.pdf?src-supplier=Allied+Electronics; ComponentLink3URL: https://datasheet.ciiva.com/22687/1678782-22687437.pdf?src-supplier=Element14; ComponentLink3Description: https://datasheet.ciiva.com/22687/1678782-22687437.pdf?src-supplier=Element14; ComponentLink4URL: https://datasheet.ciiva.com/46444/1678782-46444813.pdf?src-supplier=Element14; ComponentLink4Description: https://datasheet.ciiva.com/46444/1678782-46444813.pdf?src-supplier=Element14; ComponentLink5URL: https://datasheet.ciiva.com/46444/1678782-46444814.pdf?src-supplier=Element14; ComponentLink5Description: https://datasheet.ciiva.com/46444/1678782-46444814.pdf?src-supplier=Element14; ComponentLink6URL: https://datasheet.ciiva.com/7836/aoa0000ce2-7836505.pdf?src-supplier=Element14; ComponentLink6Description: https://datasheet.ciiva.com/7836/aoa0000ce2-7836505.pdf?src-supplier=Element14; ComponentLink7URL: https://datasheet.ciiva.com/9117/aoa0000ce2-9117093.pdf?src-supplier=Avnet; ComponentLink7Description: https://datasheet.ciiva.com/9117/aoa0000ce2-9117093.pdf?src-supplier=Avnet; ComponentLink8URL: https://datasheet.ciiva.com/9181/aoa0000ce2-9181725.pdf?src-supplier=Avnet; ComponentLink8Description: https://datasheet.ciiva.com/9181/aoa0000ce2-9181725.pdf?src-supplier=Avnet; Supplier 1: Digikey; Supplier Part Number 1: P470KHCT-ND
footprint R0603 (Chip Resistor, 2-Leads, Body 1.75x0.95mm)
pins: 1, 2